# Altium footprint library PCB-LQFP-STC-LQFP48-9X9-NO.PcbLib: 1 footprints
Each footprint in its own frame and in the unit in brackets; x right, y up, seen from the top. Pads: shape width x height; smd on the part's side, far side on the other; paste and mask are expansions set on the pad; w line width, h text height; cw(c..) or ccw(c..) is an arc to the next point about the centre after c.
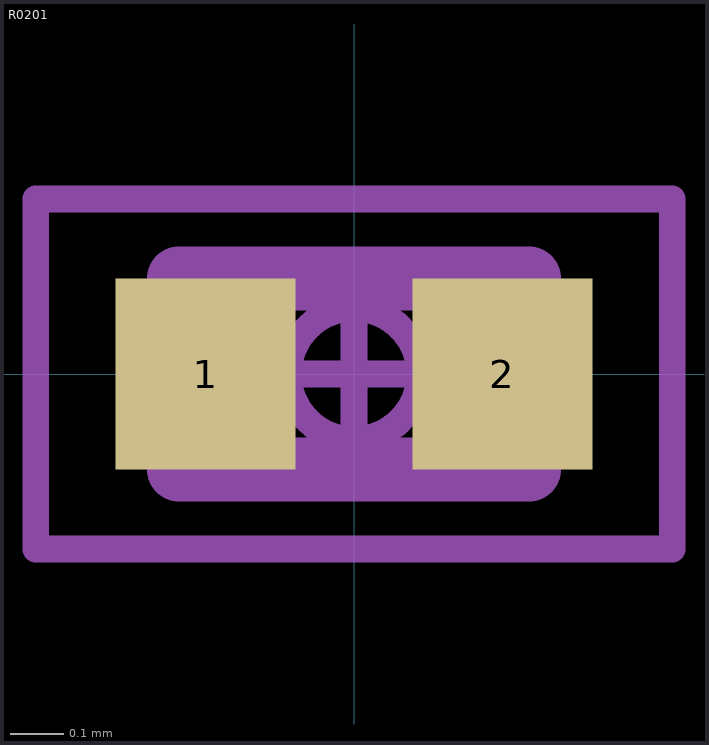
[diagram p0: the footprint, top view; thin cyan lines are the x and y axes]

## R0201 [mm] "Resistor, Chip; 0.60 mm L X 0.30 mm W X 0.28 mm H body"
height 0.28
pads (2):
  rect 0.34x0.36 smd: 1(-0.28,0) 2(0.28,0)
Mechanical 11:
  circle w0.05: c0,0 r0.124
  lines w0.05: -0.165,0 0.165,0 ; 0,-0.165 0,0.165 ; -0.6,-0.33 -0.6,0.33 0.6,0.33 0.6,-0.33 -0.6,-0.33
Mechanical 12:
  lines w0.025: -0.3,-0.15 -0.15,-0.15 -0.15,0.15 -0.3,0.15 ; -0.3,-0.15 -0.3,0.15 ; -0.3,-0.15 -0.3,0.15 ; -0.3,-0.15 0.3,-0.15 ; -0.3,0.15 0.3,0.15 ; 0.3,-0.15 0.3,0.15 ; 0.3,-0.15 0.15,-0.15 0.15,0.15 0.3,0.15 ; 0.3,-0.15 0.3,0.15
Mechanical 15:
  lines w0.12: -0.33,-0.18 -0.33,0.18 0.33,0.18 0.33,-0.18 -0.33,-0.18
3D body "RES 0201.STEP": height 0.28, standoff 0, extent -0.3,-0.15 0.3,0.15